# Altium footprint library Leonardo.PcbLib: 26 footprints (part 2 of 2)
Each footprint in its own frame and in the unit in brackets; x right, y up, seen from the top. Pads: shape width x height; smd on the part's side, far side on the other; paste and mask are expansions set on the pad; w line width, h text height; cw(c..) or ccw(c..) is an arc to the next point about the centre after c.
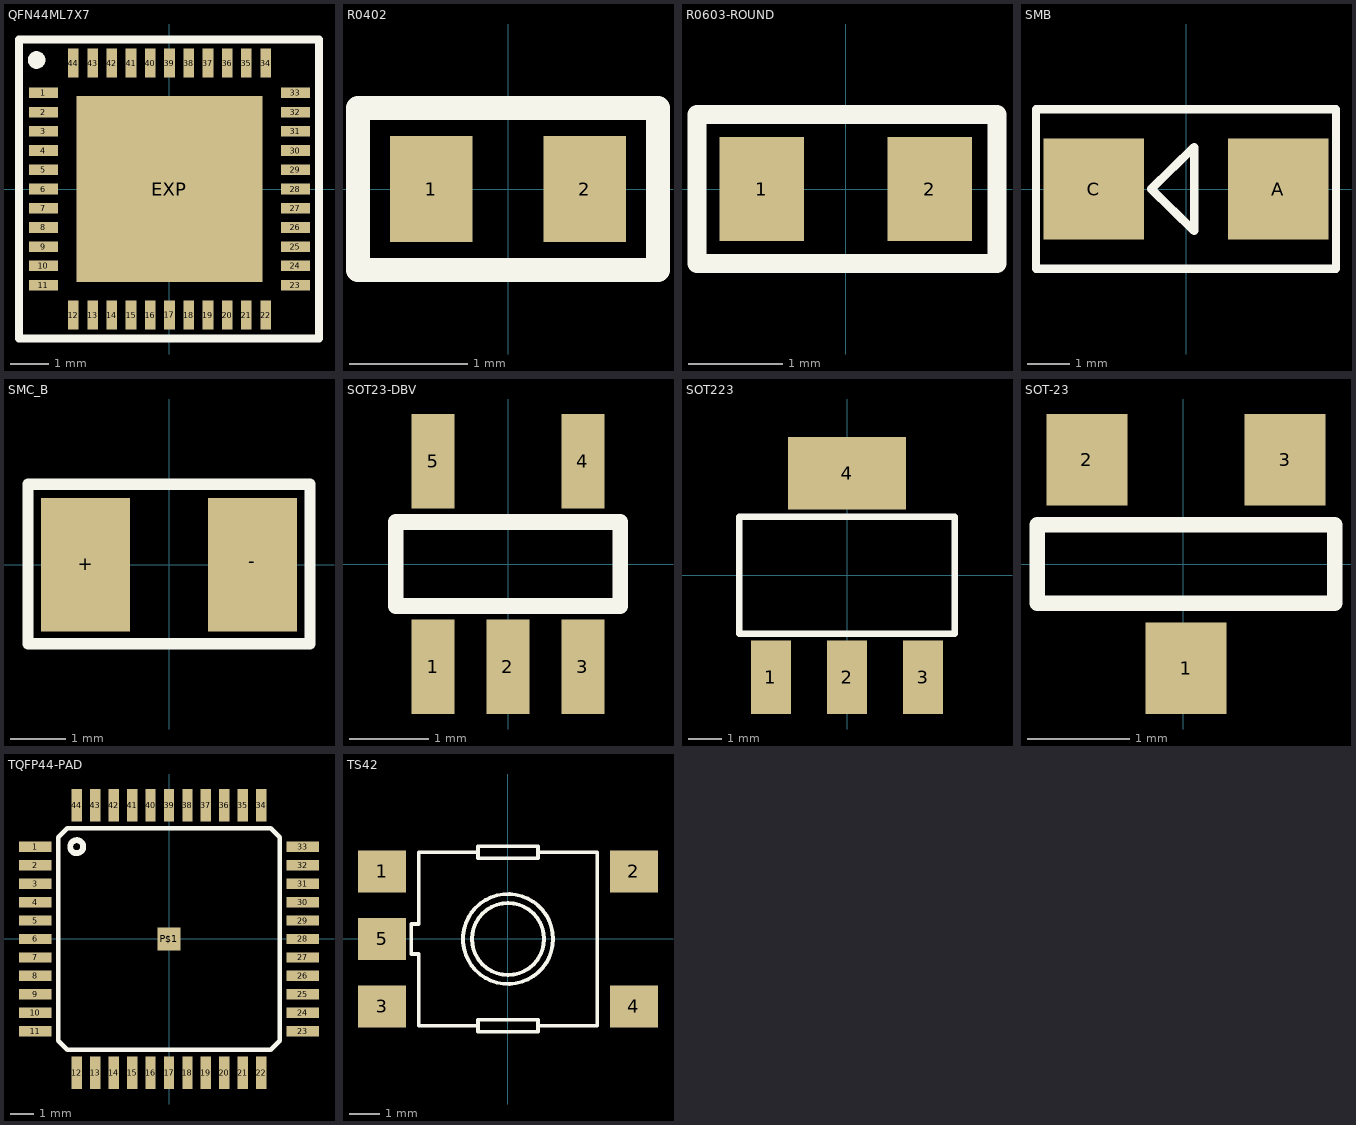
[diagram p1: the footprints below, top view; thin cyan lines are the x and y axes]

## QFN44ML7X7 [mm]
height 1.5
pads (45):
  rect 0.75x0.275 smd: 1(-3.275,2.5) 2(-3.275,2) 3(-3.275,1.5) 4(-3.275,1) 5(-3.275,0.5) 6(-3.275,0) 7(-3.275,-0.5) 8(-3.275,-1) 9(-3.275,-1.5) 10(-3.275,-2) 11(-3.275,-2.5) 23(3.275,-2.5) 24(3.275,-2) 25(3.275,-1.5) 26(3.275,-1) 27(3.275,-0.5) 28(3.275,0) 29(3.275,0.5) 30(3.275,1) 31(3.275,1.5) 32(3.275,2) 33(3.275,2.5)
  rect 0.275x0.75 smd: 12(-2.5,-3.275) 13(-2,-3.275) 14(-1.5,-3.275) 15(-1,-3.275) 16(-0.5,-3.275) 17(0,-3.275) 18(0.5,-3.275) 19(1,-3.275) 20(1.5,-3.275) 21(2,-3.275) 22(2.5,-3.275) 34(2.5,3.275) 35(2,3.275) 36(1.5,3.275) 37(1,3.275) 38(0.5,3.275) 39(0,3.275) 40(-0.5,3.275) 41(-1,3.275) 42(-1.5,3.275) 43(-2,3.275) 44(-2.5,3.275)
  rect 4.826x4.826 smd: EXP(0,0)
Top Overlay:
  circle w0.254: c-3.454,3.353 r0.102
  lines w0.203: -3.912,-3.886 3.886,-3.886 3.886,3.886 -3.912,3.886 -3.912,-3.886
3D body "ATMEGA32U4.STEP": height 1.01, standoff 0.1, extent -3.51,-3.51 3.51,3.51

## R0402 [mm]
height 1.5
pads (2):
  rect 0.7x0.9 smd: 1(-0.65,0) 2(0.65,0)
Top Overlay:
  lines w0.2: -1.27,-0.686 1.27,-0.686 1.27,0.686 -1.27,0.686 -1.27,-0.686
3D body "R 0402.STEP": height 0.3, standoff 0, extent -0.46,-0.25 0.541,0.25

## R0603-ROUND [mm]
height 1.5
pads (2):
  rect 0.898x1.1 smd: 1(-0.889,0) 2(0.889,0)
Top Overlay:
  lines w0.2: -1.575,-0.787 1.6,-0.787 1.6,0.787 -1.575,0.787 -1.575,-0.787
3D body "R 0603.STEP": height 0.4, standoff 0, extent -0.838,-0.4 0.762,0.4

## SMB [mm]
height 1.5
pads (2):
  rect 2.4x2.4 smd: A(2.2,0) C(-2.2,0)
Top Overlay:
  lines w0.2: -3.581,-1.905 3.581,-1.905 3.581,1.905 -3.581,1.905 -3.581,-1.905
  lines w0.203: -0.83,0 0.193,1 0.193,-1 -0.83,0
3D body "SMB.STEP": height 2.35, standoff 0.04, extent -2.723,-1.8 2.58,1.8

## SMC_B [mm]
height 1.5
pads (2):
  rect 1.6x2.4 smd: +(-1.5,0) -(1.5,0)
Top Overlay:
  lines w0.2: -2.54,-1.422 2.54,-1.422 2.54,1.448 -2.54,1.448 -2.54,-1.422
3D body "TAJ-B.STEP": height 1.9, standoff 0, extent -1.75,-1.4 1.75,1.4

## SOT23-DBV [mm]
height 1.5
pads (5):
  rect 0.55x1.2 smd: 1(-0.95,-1.3) 2(0,-1.3) 3(0.95,-1.3) 4(0.95,1.3) 5(-0.95,1.3)
Top Overlay:
  lines w0.2: -1.422,-0.533 1.422,-0.533 1.422,0.533 -1.422,0.533 -1.422,-0.533
3D body "User Library-SOT23-5.STEP": height 1.09, standoff -0.01, extent -1.45,-1.277 1.449,1.523

## SOT223 [mil]
height 59.06
pads (4):
  rect 48x88 smd: 1(-91,-122) 2(0,-122) 3(91,-122)
  rect 141.73x86.61 smd: 4(0,122.01)
Top Overlay:
  lines w8: -129,-70 129,-70 129,70 -129,70 -129,-70
3D body "NCP1117ST50T3G.STEP": height 65.43, standoff 0.08, extent -127.95,-137.79 127.96,137.8

## SOT-23 [mil]
height 59.06
pads (3):
  rect 31x35 smd: 1(1,-40) 2(-37,40) 3(39,40)
Top Overlay:
  lines w6: -56,-15 58,-15 58,15 -56,15 -56,-15
3D body "SOT23.STEP": height 42.52, standoff 0, extent -58.06,-51 60.06,52.94

## TQFP44-PAD [mm]
height 1.5
pads (45):
  rect 1.4x0.45 smd: 1(-5.8,4) 2(-5.8,3.2) 3(-5.8,2.4) 4(-5.8,1.6) 5(-5.8,0.8) 6(-5.8,0) 7(-5.8,-0.8) 8(-5.8,-1.6) 9(-5.8,-2.4) 10(-5.8,-3.2) 11(-5.8,-4) 23(5.8,-4) 24(5.8,-3.2) 25(5.8,-2.4) 26(5.8,-1.6) 27(5.8,-0.8) 28(5.8,0) 29(5.8,0.8) 30(5.8,1.6) 31(5.8,2.4) 32(5.8,3.2) 33(5.8,4)
  rect 0.45x1.4 smd: 12(-4,-5.8) 13(-3.2,-5.8) 14(-2.4,-5.8) 15(-1.6,-5.8) 16(-0.8,-5.8) 17(0,-5.8) 18(0.8,-5.8) 19(1.6,-5.8) 20(2.4,-5.8) 21(3.2,-5.8) 22(4,-5.8) 34(4,5.8) 35(3.2,5.8) 36(2.4,5.8) 37(1.6,5.8) 38(0.8,5.8) 39(0,5.8) 40(-0.8,5.8) 41(-1.6,5.8) 42(-2.4,5.8) 43(-3.2,5.8) 44(-4,5.8)
  rect 1x1 smd: P$1(0,0)
Top Overlay:
  circle w0.254: c-4,4 r0.283
  lines w0.203: -4.8,-4.4 -4.4,-4.8 4.4,-4.8 4.8,-4.4 4.8,4.4 4.4,4.8 -4.4,4.8 -4.8,4.4 -4.8,-4.4

## TS42 [mm]
height 1.5
pads (5):
  rect 1.6x1.4 smd: 1(-4.2,2.25) 2(4.2,2.25) 3(-4.2,-2.25) 4(4.2,-2.25) 5(-4.2,0)
Top Overlay:
  circle w0.127: c0,0 r1.2
  circle w0.127: c0,0 r1.5
  lines w0.127: -1,-2.889 -2.977,-2.889 -2.977,-0.5 -3.227,-0.5 -3.227,0.5 -2.977,0.5 -2.977,2.889 -1,2.889 ; -1,-2.889 -1,-3.089 1,-3.089 1,-2.889 ; -1,-2.889 -1,-2.689 1,-2.689 1,-2.889 ; -1,2.889 -1,2.689 1,2.689 1,2.889 ; -1,2.889 -1,3.089 1,3.089 1,2.889 ; 1,-2.889 2.977,-2.889 2.977,2.889 1,2.889
3D body "Switch-Touche DTSM-644-SMT-4pin.STEP": height 7.3, standoff 0, extent -4.5,-3.1 4.5,3.1